# EAGLE library part 15EDGRC-14X3.5 (library Eagle-Library)
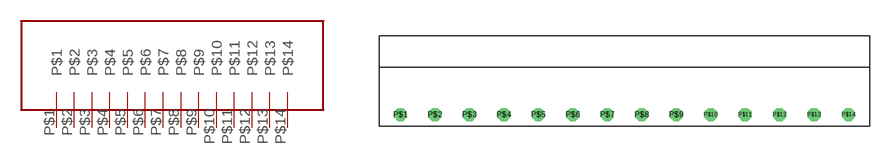
[diagram p5: symbol with the pads of 15EDGRC-14X3.5; footprint 15EDGRC-14X3.5]

Designator prefix -

## 15EDGRC-14X3.5  [15EDGRC-14X3.5]
P$1  P$1
P$2  P$2
P$3  P$3
P$4  P$4
P$5  P$5
P$6  P$6
P$7  P$7
P$8  P$8
P$9  P$9
P$10  P$10
P$11  P$11
P$12  P$12
P$13  P$13
P$14  P$14

## Footprint 15EDGRC-14X3.5 (pad centres in mm)
drill 0.8 octagon: P$1 2.15,1.2; P$2 5.65,1.2; P$3 9.15,1.2; P$4 12.65,1.2; P$5 16.15,1.2; P$6 19.65,1.2; P$7 23.15,1.2; P$8 26.65,1.2; P$9 30.15,1.2; P$10 33.65,1.2; P$11 37.15,1.2; P$12 40.65,1.2; P$13 44.15,1.2; P$14 47.65,1.2